# Altium schematic symbol library 115A-ADA0-R02.SchLib: 1 symbol
Pins are listed as number, name and electrical type; pins without a type are passive.

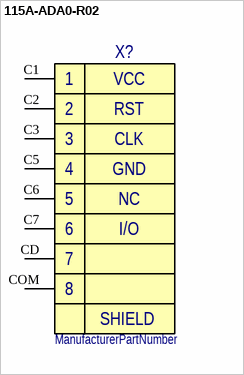
[diagram p0: symbol 115A-ADA0-R02]

## 115A-ADA0-R02
designator X?
ManufacturerPartNumber: ManufacturerPartNumber
pins: 0 hidden to GND, C1 1, C2 2, C3 3, C5 4, C6 5, C7 6, CD 7, COM
text: VCC; RST; CLK; GND; NC; I/O; 8; SHIELD